# Altium footprint library LORASX1278module.PcbLib: 1 footprints
Each footprint in its own frame and in the unit in brackets; x right, y up, seen from the top. Pads: shape width x height; smd on the part's side, far side on the other; paste and mask are expansions set on the pad; w line width, h text height; cw(c..) or ccw(c..) is an arc to the next point about the centre after c.
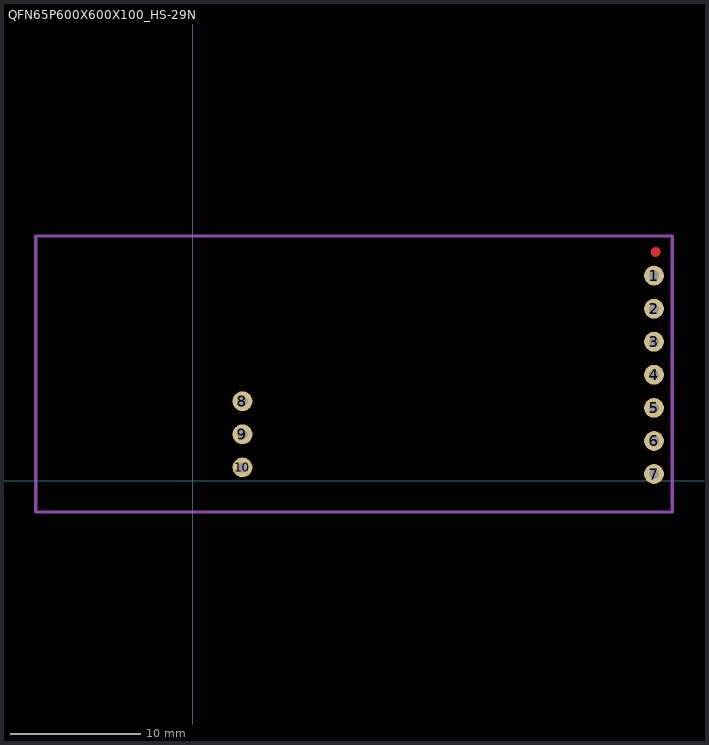
[diagram p0: the footprint, top view; thin cyan lines are the x and y axes]

## QFN65P600X600X100_HS-29N [mil] "QFN, 28-Leads, Body 6,00x6,00mm, Pitch 0,65mm, Thermal Pad 4,78x4,78mm, IPC Medium Density"
height 39.37
pads (10):
  round 60 hole 30: 1(1395,620) 2(1395,520) 3(1395,420) 4(1395,320) 5(1395,220) 6(1395,120) 7(1395,20) 8(150,240) 9(150,140) 10(150,40)
Top Layer:
  lines w27.56: 1400,690 ccw(c1389.25,693.07) 1400.43,693.34
Mechanical 13:
  lines w10: -475,-95 1450,-95 1450,740 -475,740 -475,-95
3D body "E32-TTL-100 module without ant.STEP": height 169.83, standoff -402.61, extent -470,-90 1450.47,736.77